# EAGLE library part ADL5375 (library Analog Devices)
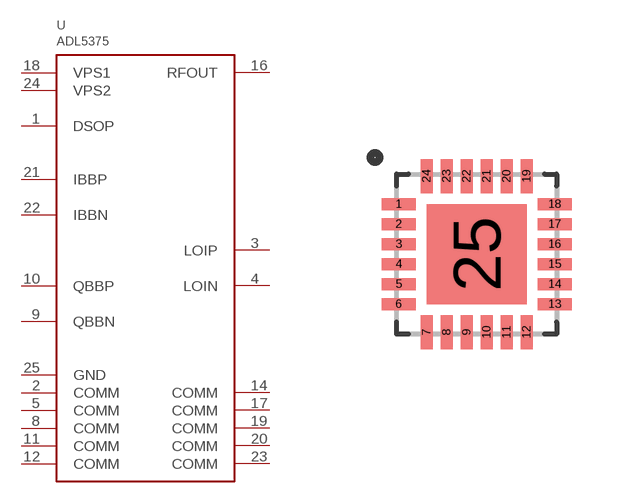
[diagram p20: symbol with the pads of QFN24; footprint QFN24]

Designator prefix U

## ADL5375  [QFN24]
1  DSOP
2  COMM
3  LOIP
4  LOIN
5  COMM
8  COMM
9  QBBN
10  QBBP
11  COMM
12  COMM
14  COMM
16  RFOUT
17  COMM
18  VPS1
19  COMM
20  COMM
21  IBBP
22  IBBN
23  COMM
24  VPS2
25  GND

## Footprint QFN24 (pad centres in mm)
smd 0.85 x 0.3: 1 -1.95,1.25; 2 -1.95,0.75; 3 -1.95,0.25; 4 -1.95,-0.25; 5 -1.95,-0.75; 6 -1.95,-1.25; 13 1.95,-1.25; 14 1.95,-0.75; 15 1.95,-0.25; 16 1.95,0.25; 17 1.95,0.75; 18 1.95,1.25
smd 0.3 x 0.85: 7 -1.25,-1.95; 8 -0.75,-1.95; 9 -0.25,-1.95; 10 0.25,-1.95; 11 0.75,-1.95; 12 1.25,-1.95; 19 1.25,1.95; 20 0.75,1.95; 21 0.25,1.95; 22 -0.25,1.95; 23 -0.75,1.95; 24 -1.25,1.95
smd 2.5 x 2.5: 25 0,0